# Altium schematic symbol library Z-Filter.SCHLIB: 6 symbols
Pins are listed as number, name and electrical type; pins without a type are passive.

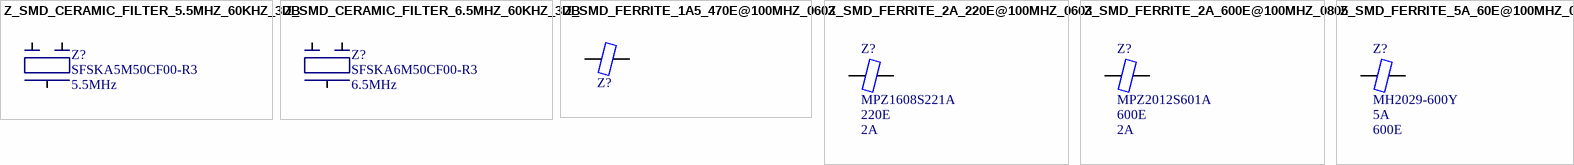
[diagram p0: symbols Z_SMD_CERAMIC_FILTER_5.5MHZ_60KHZ_3DB to Z_SMD_FERRITE_5A_60E@100MHZ_0805]

## Z_SMD_CERAMIC_FILTER_5.5MHZ_60KHZ_3DB
designator Z?  value 5.5MHz  Manufacturer Number: SFSKA5M50CF00-R3  (hidden comment: Z_SMD_CERAMIC_FILTER_5.5MHZ_60KHZ_3DB)
SMD Ceramic Filter; Manufacturer: muRata; Supplier - Mouser: 81-SFSKA5M50CF00-R3
footprint SMD_CERAMIC_FILTER_6P_2.5MM_2.5MM
pins: 1, 2, 3

## Z_SMD_CERAMIC_FILTER_6.5MHZ_60KHZ_3DB
designator Z?  value 6.5MHz  Manufacturer Number: SFSKA6M50CF00-R3  (hidden comment: Z_SMD_CERAMIC_FILTER_6.5MHZ_60KHZ_3DB)
SMD Ceramic Filter; Manufacturer: muRata
footprint SMD_CERAMIC_FILTER_6P_2.5MM_2.5MM
pins: 1, 2, 3

## Z_SMD_FERRITE_1A5_470E@100MHZ_0603
designator Z?  (value not drawn)
FERRITE CHIP 470 OHM 1500MA 0603; Value: 1.5A; Supplier - Digikey: 490-5257-1-ND; Type: BLM18KG471SN1D
footprint SMD_0603
pins: 1, 2

## Z_SMD_FERRITE_2A_220E@100MHZ_0603
designator Z?  value 220E  Type: MPZ1608S221A  Value2: 2A  (hidden comment: Z_SMD_FERRITE_2A_220E@100MHZ_0603)
Ferrite Beads; Supplier - E+H Flowtec AG: 50104604; Supplier - Digikey: 445-1565-1-ND
footprint SMD_RES_0603
pins: 1, 2

## Z_SMD_FERRITE_2A_600E@100MHZ_0805
designator Z?  value 600E  Type: MPZ2012S601A  Value2: 2A
Chip Beads(SMD) For Power Line
footprint SMD_0805
pins: 1, 2

## Z_SMD_FERRITE_5A_60E@100MHZ_0805
designator Z?  value 600E  Type: MH2029-600Y  Value2: 5A  (hidden comment: Z_SMD_FERRITE_5A_60E@100MHZ_0805)
BEAD FERRITE 60 OHM 5A; Supplier - Digikey: MH2029-600YCT-ND
footprint SMD_0805
pins: 1, 2